# Altium schematic symbol library ICs_DCDC.SchLib: 31 symbols
Pins are listed as number, name and electrical type; pins without a type are passive.

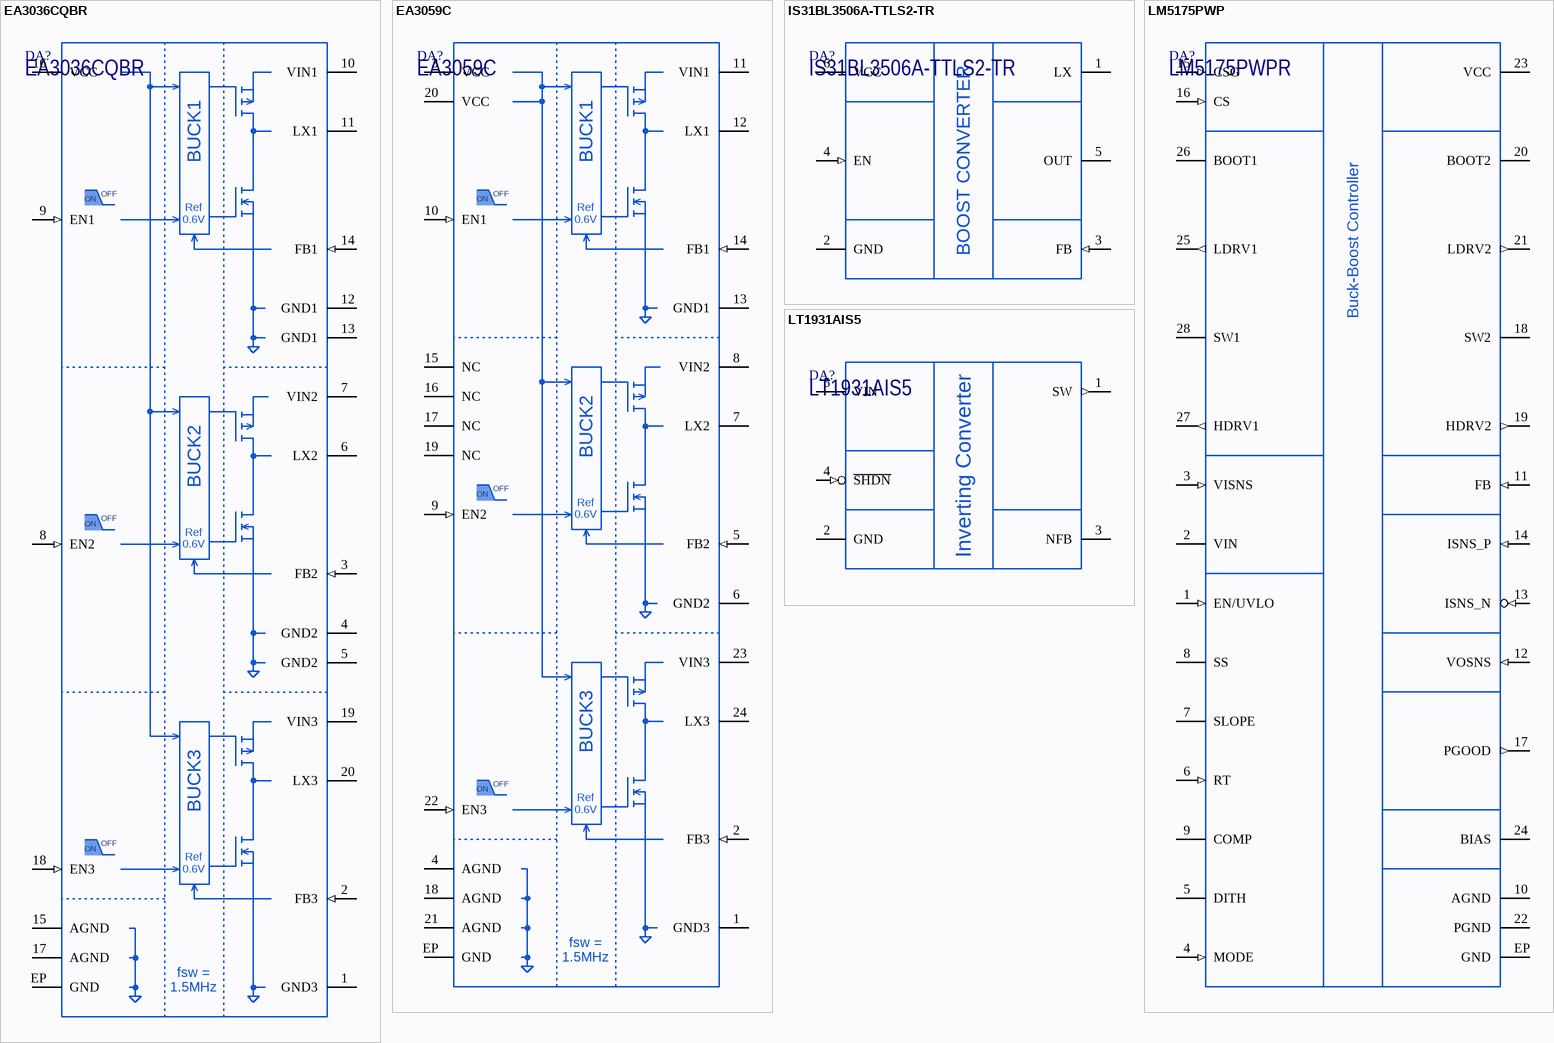
[diagram p0: symbols EA3036CQBR to LT1931AIS5]

## EA3036CQBR
designator DA?
3CH Power Management IC; Manufacturer: Everanalog; ItemSubType: Buck converter; Package: QFN-20 (3x3); PartNumber: EA3036CQBR; Marking: EA3036C; ItemType: IC; Mounting: SMD
footprint QFN20_EA3036C (Power QFN 3mm x 3mm, 0.4mm pitch)
pins: 1 GND3, 2 FB3 (in), 3 FB2 (in), 4 GND2, 5 GND2, 6 LX2, 7 VIN2 (power), 8 EN2 (in), 9 EN1 (in), 10 VIN1 (power), 11 LX1, 12 GND1, 13 GND1, 14 FB1 (in), 15 AGND, 16 VCC (power), 17 AGND, 18 EN3 (in), 19 VIN3 (power), 20 LX3, EP GND
text: BUCK1; OFF; ON; Ref; 0.6V; BUCK2; BUCK3; fsw =; 1.5MHz

## EA3059C
designator DA?
3CH Power Management IC; Manufacturer: Everanalog; ItemSubType: Buck converter; Package: QFN-24 (4x4); PartNumber: EA3059C; Marking: EA3059C; ItemType: IC; Mounting: SMD
footprint QFN24_EA3059C (Power QFN 4mm x 4mm, 0.5mm pitch)
pins: 1 GND3, 2 FB3 (in), 3 VCC (power), 4 AGND, 5 FB2 (in), 6 GND2, 7 LX2, 8 VIN2 (power), 9 EN2 (in), 10 EN1 (in), 11 VIN1 (power), 12 LX1, 13 GND1, 14 FB1 (in), 15 NC (hiz), 16 NC (hiz), 17 NC (hiz), 18 AGND, 19 NC (hiz), 20 VCC (power), 21 AGND, 22 EN3 (in), 23 VIN3 (power), 24 LX3, EP GND
text: BUCK1; OFF; ON; Ref; 0.6V; BUCK2; BUCK3; fsw =; 1.5MHz

## IS31BL3506A-TTLS2-TR
designator DA?
1.0MHz Boost Converter With 35V Internal MOSFET Switch; Manufacturer: ISSI; AltManufacturer1: Wuxi Chipown; Alternative1: AP3128AE3036ES6; Marking: 3506A; ItemType: IC; Package: TSOT-23-6; PartNumber: IS31BL3506A-TTLS2-TR; ItemSubType: Boost converter; Mounting: SMD
footprint TSOT236_JEDEC_MO193AA (TSOT23, 6-Leads, Body 1.60x2.90mm, Pitch 0.95mm)
pins: 1 LX, 2 GND, 3 FB (in), 4 EN (in), 5 OUT (power), 6 VCC (power)
text: BOOST CONVERTER

## LM5175PWP
designator DA?, comment LM5175PWPR
Synchronous 4-Switch Buck-Boost Controller; Manufacturer: Texas Instruments; Marking: LM5175; ItemType: IC; PartNumber: LM5175PWPR; Package: HTSSOP-28; ItemSubType: Buck-Boost Controller; Mounting: SMD
footprint HTSSOP28_PWP0028C (HTSSOP, 28-Leads, Pitch 0.65mm)
pins: 1 EN/UVLO (in), 2 VIN (power), 3 VISNS (in), 4 MODE (in), 5 DITH, 6 RT (in), 7 SLOPE, 8 SS, 9 COMP, 10 AGND, 11 FB (in), 12 VOSNS (in), 13 ISNS_N (in), 14 ISNS_P (in), 15 CSG (in), 16 CS (in), 17 PGOOD (out), 18 SW2, 19 HDRV2 (out), 20 BOOT2, 21 LDRV2 (out), 22 PGND, 23 VCC (power), 24 BIAS, 25 LDRV1 (out), 26 BOOT1, 27 HDRV1 (out), 28 SW1, EP GND

## LT1931AIS5
designator DA?
1.2MHz/2.2MHz Inverting DC/DC Converters; Manufacturer: Analog Devices; Marking: LTBZG; ItemType: IC; ItemSubType: Inverting converter; Package: TSOT-23-5; PartNumber: LT1931AIS5; Mounting: SMD
footprint TSOT235_JEDEC_MO193AB (TSOT23, 5-Leads, Body 1.60x2.90mm, Pitch 0.95mm)
pins: 1 SW (out), 2 GND, 3 NFB (power), 4 ~{SHDN} (in), 5 VIN (power)
text: Inverting Converter

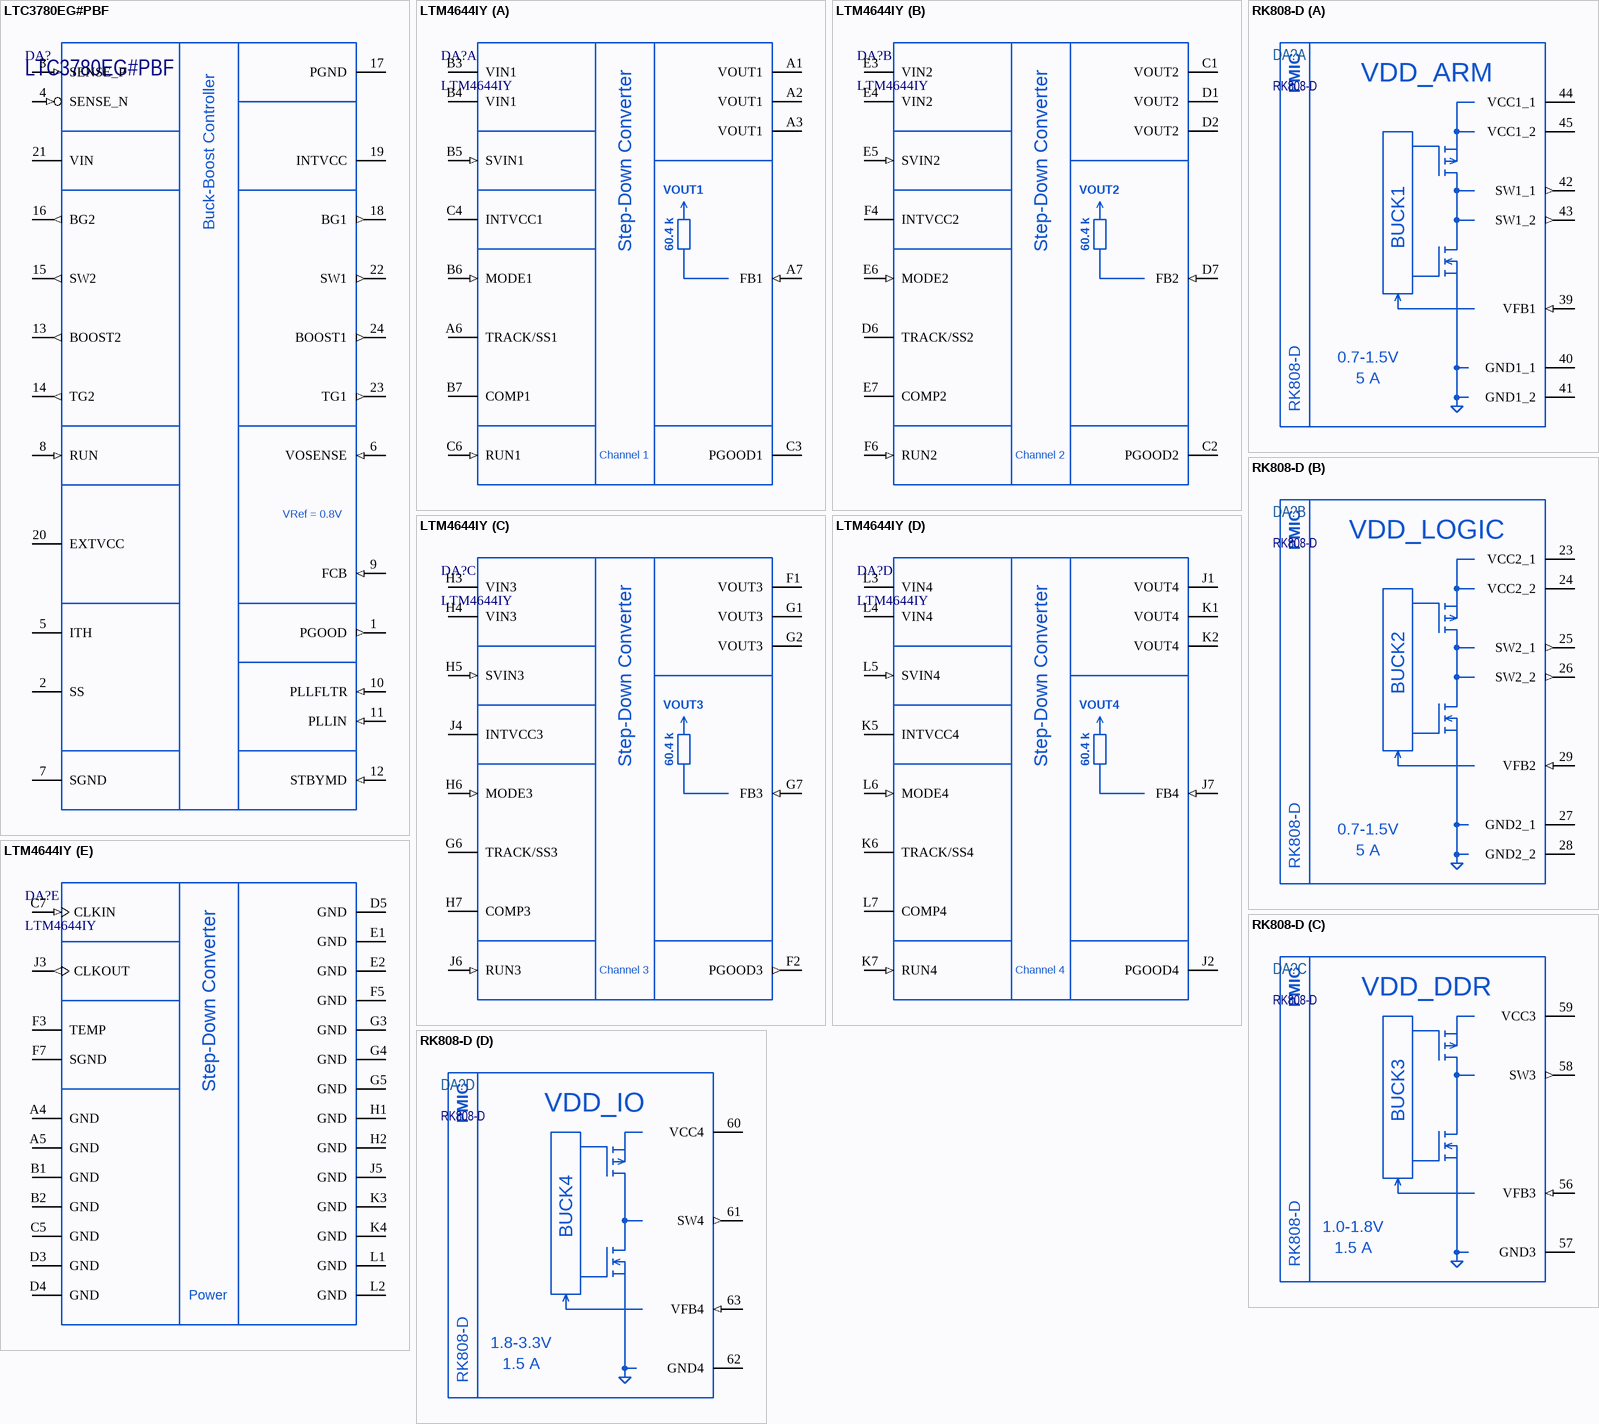
[diagram p1: symbols LTC3780EG#PBF to RK808-D]

## LTC3780EG#PBF
designator DA?
High Efficiency, Synchronous, 4-Switch Buck-Boost Controller; Manufacturer: Analog Devices; ItemType: IC; PartNumber: LTC3780EG#PBF; Package: SSOP-24; Marking: LTC3780EG; ItemSubType: Buck-Boost Controller; Mounting: SMD
footprint SSOP24_LTC3780 (24-Lead Plastic SSOP (5.3mm))
pins: 1 PGOOD (out), 2 SS, 3 SENSE_P (in), 4 SENSE_N (in), 5 ITH, 6 VOSENSE (in), 7 SGND, 8 RUN (in), 9 FCB (in), 10 PLLFLTR (in), 11 PLLIN (in), 12 STBYMD (in), 13 BOOST2 (out), 14 TG2 (out), 15 SW2 (out), 16 BG2 (out), 17 PGND, 18 BG1 (out), 19 INTVCC, 20 EXTVCC, 21 VIN, 22 SW1 (out), 23 TG1 (out), 24 BOOST1 (out)
text: VRef = 0.8V

## LTM4644IY
designator DA?
Quad DC/DC µModule Regulator with Configurable 4A Output Array; Manufacturer: Analog Devices; Marking: LTM4644Y; ItemType: IC; ItemSubType: Buck converter; PartNumber: LTM4644IY; Package: BGA-77; Mounting: SMD
footprint BGA77_LTM4644 (BGA, 77-Leads, Body 15,00x9,00mmx5,21mm, Pitch 1,27mm)
part A pins: A1 VOUT1 (power), A2 VOUT1 (power), A3 VOUT1 (power), A6 TRACK/SS1, A7 FB1 (in), B3 VIN1 (power), B4 VIN1 (power), B5 SVIN1 (in), B6 MODE1 (in), B7 COMP1, C3 PGOOD1 (oc), C4 INTVCC1 (power), C6 RUN1 (in)
part B pins: C1 VOUT2 (power), C2 PGOOD2 (oc), D1 VOUT2 (power), D2 VOUT2 (power), D6 TRACK/SS2, D7 FB2 (in), E3 VIN2 (power), E4 VIN2 (power), E5 SVIN2 (in), E6 MODE2 (in), E7 COMP2, F4 INTVCC2 (power), F6 RUN2 (in)
part C pins: F1 VOUT3 (power), F2 PGOOD3 (out), G1 VOUT3 (power), G2 VOUT3 (power), G6 TRACK/SS3, G7 FB3 (in), H3 VIN3 (power), H4 VIN3 (power), H5 SVIN3 (in), H6 MODE3 (in), H7 COMP3, J4 INTVCC3 (power), J6 RUN3 (in)
part D pins: J1 VOUT4 (power), J2 PGOOD4 (oc), J7 FB4 (in), K1 VOUT4 (power), K2 VOUT4 (power), K5 INTVCC4 (power), K6 TRACK/SS4, K7 RUN4 (in), L3 VIN4 (power), L4 VIN4 (power), L5 SVIN4 (in), L6 MODE4 (in), L7 COMP4
part E pins: A4 GND, A5 GND, B1 GND, B2 GND, C5 GND, C7 CLKIN (in), D3 GND, D4 GND, D5 GND, E1 GND, E2 GND, F3 TEMP, F5 GND, F7 SGND, G3 GND, G4 GND, G5 GND, H1 GND, H2 GND, J3 CLKOUT (out), J5 GND, K3 GND, K4 GND, L1 GND, L2 GND
part A text: Step-Down Converter; 60.4 k; Channel 1
part B text: Step-Down Converter; 60.4 k; Channel 2
part C text: Step-Down Converter; 60.4 k; Channel 3
part D text: Step-Down Converter; 60.4 k; Channel 4
part E text: Step-Down Converter; Power

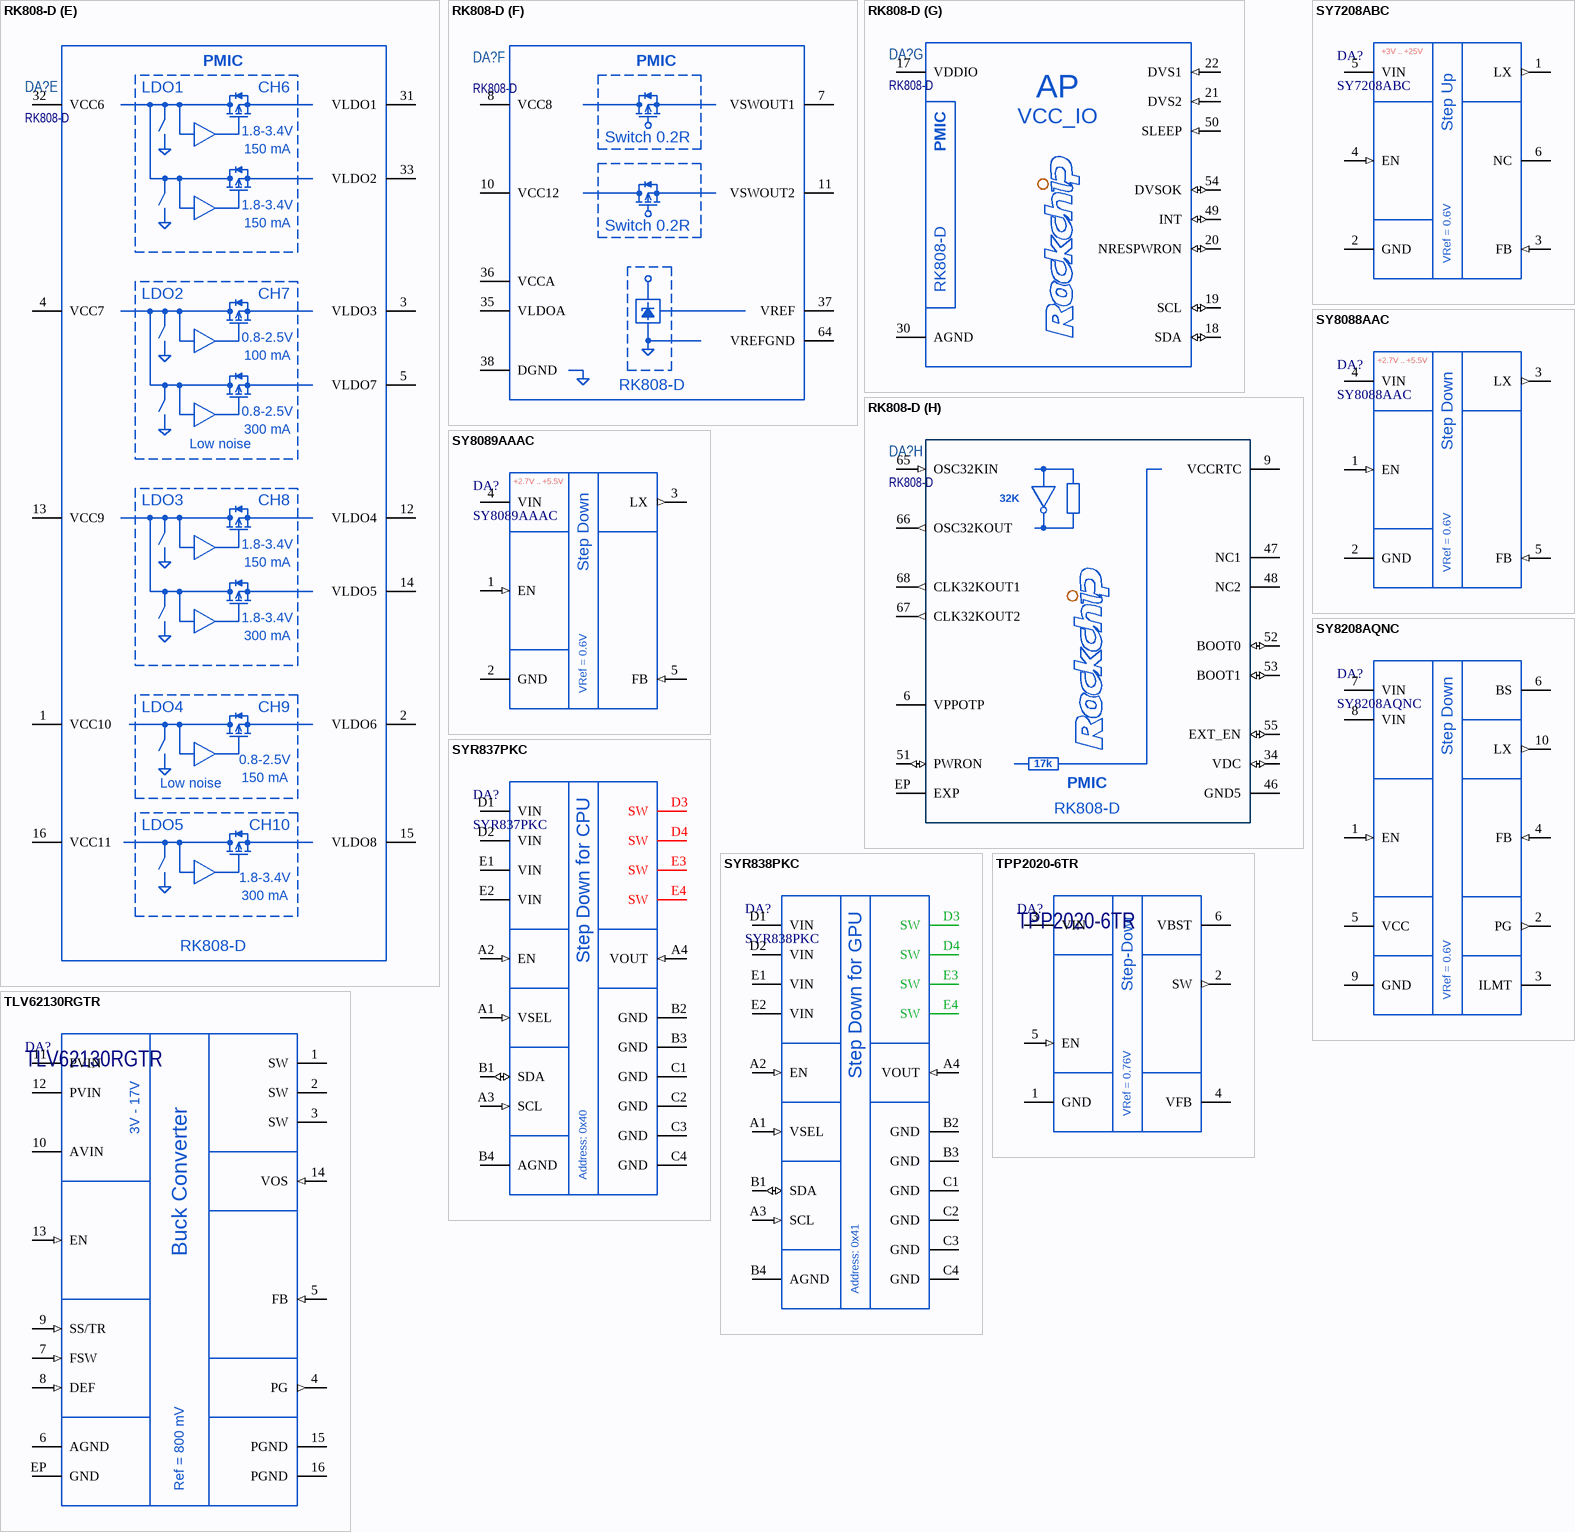
[diagram p2: symbols RK808-D to TPP2020-6TR]

## RK808-D
designator DA?
PMIC; Manufacturer: Rockchip; ItemType: IC; PartNumber: RK808-D; Package: QFN-68 (p = 0.35mm); ItemSubType: PMIC; Mounting: SMD
footprint QFN68_RK8xx (Power QFN 7mm x 7mm, 0.35mm pitch, for RockChip PMIC RK8xx)
part A pins: 39 VFB1 (in), 40 GND1_1, 41 GND1_2, 42 SW1_1 (out), 43 SW1_2 (out), 44 VCC1_1 (power), 45 VCC1_2 (power)
part B pins: 23 VCC2_1 (power), 24 VCC2_2 (power), 25 SW2_1 (out), 26 SW2_2 (out), 27 GND2_1, 28 GND2_2, 29 VFB2 (in)
part C pins: 56 VFB3 (in), 57 GND3, 58 SW3 (out), 59 VCC3 (power)
part D pins: 60 VCC4 (power), 61 SW4 (out), 62 GND4, 63 VFB4 (in)
part E pins: 1 VCC10 (power), 2 VLDO6 (power), 3 VLDO3 (power), 4 VCC7 (power), 5 VLDO7 (power), 12 VLDO4 (power), 13 VCC9 (power), 14 VLDO5 (power), 15 VLDO8 (power), 16 VCC11 (power), 31 VLDO1 (power), 32 VCC6 (power), 33 VLDO2 (power)
part F pins: 7 VSWOUT1 (power), 8 VCC8 (power), 10 VCC12 (power), 11 VSWOUT2 (power), 35 VLDOA (power), 36 VCCA (power), 37 VREF (power), 38 DGND, 64 VREFGND
part G pins: 17 VDDIO (power), 18 SDA (io), 19 SCL (io), 20 NRESPWRON (io), 21 DVS2 (in), 22 DVS1 (in), 30 AGND, 49 INT (io), 50 SLEEP (in), 54 DVSOK (io)
part H pins: 6 VPPOTP (power), 9 VCCRTC (power), 34 VDC (io), 46 GND5, 47 NC1 (hiz), 48 NC2 (hiz), 51 PWRON (io), 52 BOOT0 (io), 53 BOOT1 (io), 55 EXT_EN (io), 65 OSC32KIN (in), 66 OSC32KOUT (out), 67 CLK32KOUT2 (out), 68 CLK32KOUT1 (out), EP EXP
part A text: VDD_ARM; BUCK1; 5 A; 0.7-1.5V
part B text: VDD_LOGIC; BUCK2; 5 A; 0.7-1.5V
part C text: VDD_DDR; BUCK3; 1.5 A; 1.0-1.8V
part D text: VDD_IO; BUCK4; 1.5 A; 1.8-3.3V
part E text: LDO1; CH6; 150 mA; 1.8-3.4V; LDO2; CH7; 100 mA; 0.8-2.5V; 300 mA; Low noise; LDO3; CH8; LDO4; CH9; LDO5; CH10
part F text: Switch 0.2R
part G text: AP; VCC_IO
part H text: 32K; 17k

## SY7208ABC
designator DA?
High Efficiency 1MHz, 2A Step Up Regulator; Manufacturer: Silergy; Marking: CAxxx; ItemSubType: Boost converter; ItemType: IC; PartNumber: SY7208ABC; Package: SOT23-6; Mounting: SMD
footprint SOT236_JEDEC_MO178AB (SOT23, 6-Leads, Body 1.60x2.90mm, Pitch 0.95mm)
pins: 1 LX (out), 2 GND, 3 FB (in), 4 EN (in), 5 VIN (power), 6 NC (hiz)
text: +3V .. +25V; Step Up; VRef = 0.6V

## SY8088AAC
designator DA?
High Efficiency 5.5V, 1A, 1.5 MHz Synchronous Step Down Regulator; Manufacturer: Silergy; Marking: LDxxx; ItemSubType: Buck converter; ItemType: IC; PartNumber: SY8088AAC; Package: SOT23-5; Mounting: SMD
footprint SOT235_JEDEC_MO178AA (SOT23, 5-Leads, Body 1.60x2.90mm, Pitch 0.95mm)
pins: 1 EN (in), 2 GND, 3 LX (out), 4 VIN (power), 5 FB (in)
text: +2.7V .. +5.5V; Step Down; VRef = 0.6V

## SY8089AAAC
designator DA?
High Efficiency 5.5V, 2A continuous, 3A peak, 1MHz Synchronous Step Down Regulator; Manufacturer: Silergy; Marking: KVxxx; ItemSubType: Buck converter; ItemType: IC; PartNumber: SY8089AAAC; Package: SOT23-5; Mounting: SMD
footprint SOT235_JEDEC_MO178AA (SOT23, 5-Leads, Body 1.60x2.90mm, Pitch 0.95mm)
pins: 1 EN (in), 2 GND, 3 LX (out), 4 VIN (power), 5 FB (in)
text: +2.7V .. +5.5V; Step Down; VRef = 0.6V

## SY8208AQNC
designator DA?
High Efficiency Fast Response 8A Continuous, 16A Peak, 28V Input Synchronous Step Down Regulator; Manufacturer: Silergy; Marking: MRxxx; ItemType: IC; ItemSubType: Buck converter; PartNumber: SY8208AQNC; Package: QFN3x3-10 FC; Mounting: SMD
footprint QFN3x3_10FC (Power QFN 3mm x 3mm)
pins: 1 EN (in), 2 PG (out), 3 ILMT, 4 FB (in), 5 VCC (power), 6 BS, 7 VIN (power), 8 VIN (power), 9 GND, 10 LX (out)
text: Step Down; VRef = 0.6V

## SYR837PKC
designator DA?
High Efficiency 5.5V, 6A, 2.4MHz, I2C Programmable, Synchronous Step Down Regulator; Manufacturer: Silergy; Marking: Jn xxx; ItemType: IC; ItemSubType: PMIC; PartNumber: SYR837PKC; Package: CSP-20; Mounting: SMD
footprint CSP20_Jn (20-ball package, 1.56x1.96mm)
pins: A1 VSEL (in), A2 EN (in), A3 SCL (in), A4 VOUT (in), B1 SDA (io), B2 GND, B3 GND, B4 AGND, C1 GND, C2 GND, C3 GND, C4 GND, D1 VIN (power), D2 VIN (power), D3 SW (power), D4 SW (power), E1 VIN (power), E2 VIN (power), E3 SW (power), E4 SW (power)
text: Step Down for CPU; Address: 0x40

## SYR838PKC
designator DA?
High Efficiency 5.5V, 6A, 2.4MHz, I2C Programmable, Synchronous Step Down Regulator; Manufacturer: Silergy; Marking: Jq xxx; ItemType: IC; ItemSubType: PMIC; PartNumber: SYR838PKC; Package: CSP-20; Mounting: SMD
footprint CSP20_Jq (20-ball package, 1.56x1.96mm)
pins: A1 VSEL (in), A2 EN (in), A3 SCL (in), A4 VOUT (in), B1 SDA (io), B2 GND, B3 GND, B4 AGND, C1 GND, C2 GND, C3 GND, C4 GND, D1 VIN (power), D2 VIN (power), D3 SW (power), D4 SW (power), E1 VIN (power), E2 VIN (power), E3 SW (power), E4 SW (power)
text: Step Down for GPU; Address: 0x41

## TLV62130RGTR
designator DA?
3-V to 17-V 3-A Step-Down Converter; Manufacturer: Texas Instruments; ItemType: IC; ItemSubType: Buck converter; Marking: VUBI; Alternative1: TLV62130RGTT; PartNumber: TLV62130RGTR; Package: VQFN-16; AltManufacturer1: Texas Instruments; Mounting: SMD
footprint VQFN16_RGT0016C (Power VQFN 3mm x 3mm, TI case RGT0016C)
pins: 1 SW, 2 SW, 3 SW, 4 PG (out), 5 FB (in), 6 AGND, 7 FSW (in), 8 DEF (in), 9 SS/TR (in), 10 AVIN (power), 11 PVIN (power), 12 PVIN (power), 13 EN (in), 14 VOS (in), 15 PGND, 16 PGND, EP GND
text: 3V - 17V; Buck Converter; Ref = 800 mV

## TPP2020-6TR
designator DA?
17-V Input, 2-A Synchronous Step-Down Voltage Regulator; Manufacturer: 3PEAK; Marking: 202; ItemType: IC; ItemSubType: Buck converter; PartNumber: TPP2020-6TR; Package: TSOT23-6; Mounting: SMD
footprint TSOT236_JEDEC_MO193AA (TSOT23, 6-Leads, Body 1.60x2.90mm, Pitch 0.95mm)
pins: 1 GND, 2 SW (out), 3 VIN (power), 4 VFB, 5 EN (in), 6 VBST
text: Step-Down; VRef = 0.76V

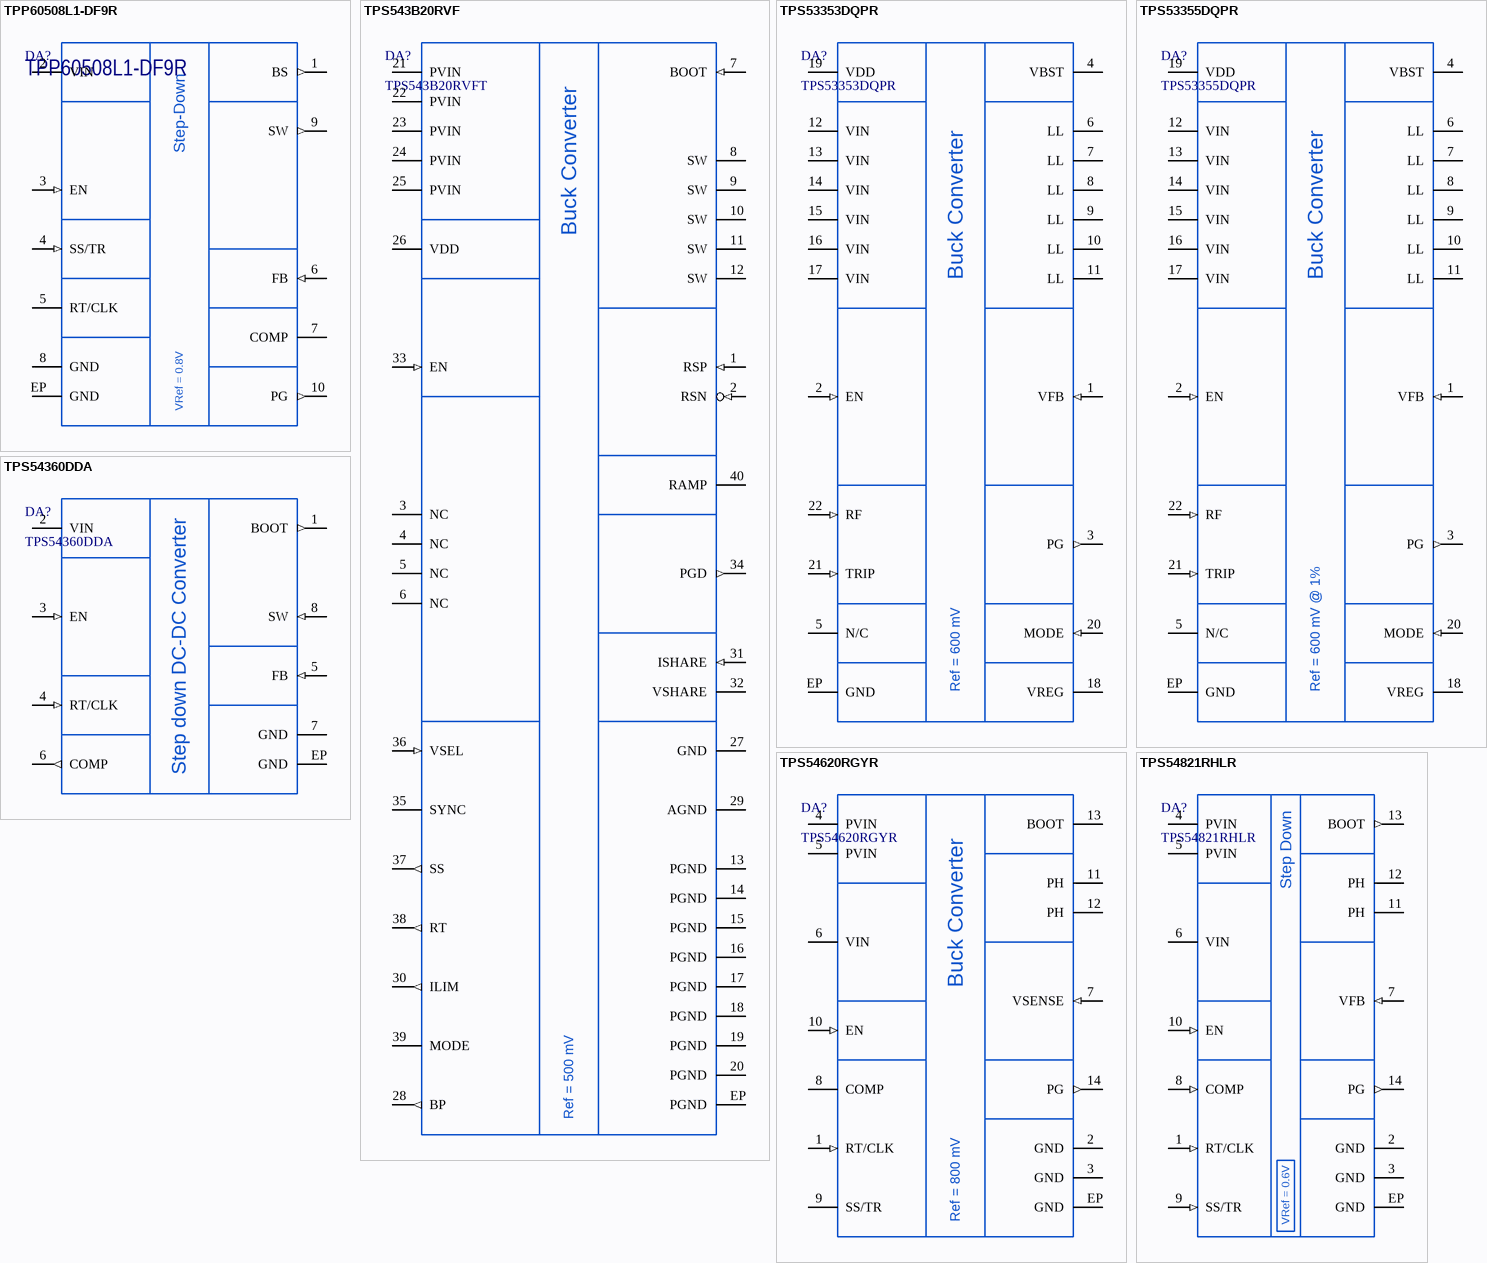
[diagram p3: symbols TPP60508L1-DF9R to TPS54821RHLR]

## TPP60508L1-DF9R
designator DA?
60-V, 5-A, Non-Synchronous Step-Down DC/DC Converter; Manufacturer: 3PEAK; Marking: P658; ItemType: IC; ItemSubType: Buck converter; Alternative1: TPP60508L1-DF9R-S; PartNumber: TPP60508L1-DF9R; Package: DF9(DFN10_4x4); AltManufacturer1: 3PEAK; Mounting: SMD
footprint DF9(DFN10_4x4) (Power DFN 4.1mm x 4.1mm, 0.8mm pitch)
pins: 1 BS (out), 2 VIN (power), 3 EN (in), 4 SS/TR (in), 5 RT/CLK, 6 FB (in), 7 COMP, 8 GND, 9 SW (out), 10 PG (out), EP GND
text: Step-Down; VRef = 0.8V

## TPS543B20RVF
designator DA?, comment TPS543B20RVFT
4-VIN to 19-VIN, 25-A Stackable, Synchronous Step-Down SWIFT Converter; Manufacturer: Texas Instruments; ItemType: IC; ItemSubType: Buck converter; Alternative1: TPS543B20RVFR; PartNumber: TPS543B20RVFT; Package: LQFN-CLIP-40; Marking: TPS543B20; AltManufacturer1: Texas Instruments; Mounting: SMD
footprint LQFN40_RVF0040A (LQFN-CLIP 5mm x 7mm, TI case RVF0040A)
pins: 1 RSP (in), 2 RSN (in), 3 NC (hiz), 4 NC (hiz), 5 NC (hiz), 6 NC (hiz), 7 BOOT (in), 8 SW, 9 SW, 10 SW, 11 SW, 12 SW, 13 PGND, 14 PGND, 15 PGND, 16 PGND, 17 PGND, 18 PGND, 19 PGND, 20 PGND, 21 PVIN (power), 22 PVIN (power), 23 PVIN (power), 24 PVIN (power), 25 PVIN (power), 26 VDD (power), 27 GND, 28 BP (out), 29 AGND, 30 ILIM (out), 31 ISHARE (in), 32 VSHARE, 33 EN (in), 34 PGD (out), 35 SYNC, 36 VSEL (in), 37 SS (out), 38 RT (out), 39 MODE, 40 RAMP, EP PGND
text: Buck Converter; Ref = 500 mV

## TPS53353DQPR
designator DA?
High-Efficiency 20-A Synchronous Buck Converter; Manufacturer: Texas Instruments; ItemType: IC; Alternative1: TPS53353DQPT; PartNumber: TPS53353DQPR; Package: LSON-CLIP-22; Marking: 53353DQP; ItemSubType: Buck converter; AltManufacturer1: Texas Instruments; Mounting: SMD
footprint LSON-CLIP22 (DFN, 22-Leads, Body 6x5mm, Pitch 0.50mm, Thermal Pad 3.24x5.49mm. TI Reference R-PSON-N22)
pins: 1 VFB (in), 2 EN (in), 3 PG (out), 4 VBST, 5 N/C (hiz), 6 LL, 7 LL, 8 LL, 9 LL, 10 LL, 11 LL, 12 VIN (power), 13 VIN (power), 14 VIN (power), 15 VIN (power), 16 VIN (power), 17 VIN (power), 18 VREG (power), 19 VDD (power), 20 MODE (in), 21 TRIP (in), 22 RF (in), EP GND
text: Buck Converter; Ref = 600 mV

## TPS53355DQPR
designator DA?
1.5-V to 15-V Input (4.5-V to 25-V bias) 30-A Synch Step-down SWIFT Converter with Eco-mode; Manufacturer: Texas Instruments; ItemType: IC; ItemSubType: Buck converter; Alternative1: TPS53355DQPT; PartNumber: TPS53355DQPR; Package: LSON-CLIP-22; Marking: 53355DQP; AltManufacturer1: Texas Instruments; Mounting: SMD
footprint LSON-CLIP22 (DFN, 22-Leads, Body 6x5mm, Pitch 0.50mm, Thermal Pad 3.24x5.49mm. TI Reference R-PSON-N22)
pins: 1 VFB (in), 2 EN (in), 3 PG (out), 4 VBST, 5 N/C (hiz), 6 LL, 7 LL, 8 LL, 9 LL, 10 LL, 11 LL, 12 VIN (power), 13 VIN (power), 14 VIN (power), 15 VIN (power), 16 VIN (power), 17 VIN (power), 18 VREG (power), 19 VDD (power), 20 MODE (in), 21 TRIP (in), 22 RF (in), EP GND
text: Buck Converter; Ref = 600 mV @ 1%

## TPS54360DDA
designator DA?
60-V Input, 3.5-A, Step-Down DC/DC Converter With Eco-Mode; Manufacturer: Texas Instruments; Marking: 54360; ItemType: IC; ItemSubType: Buck converter; PartNumber: TPS54360DDA; Package: Power SOIC-8; Mounting: SMD
footprint SOIC8EP_R-PDSO-G8 (Power SOIC-8 package with exponsed pad)
pins: 1 BOOT (out), 2 VIN (power), 3 EN (in), 4 RT/CLK (in), 5 FB (in), 6 COMP (out), 7 GND, 8 SW (in), EP GND
text: Step down DC-DC Converter

## TPS54620RGYR
designator DA?
4.5-V to 17-V Input, 6-A, Synchronous, Step-Down Converter; Manufacturer: Texas Instruments; Marking: 54620; ItemType: IC; ItemSubType: Buck converter; Alternative1: TPS54620RGYT; PartNumber: TPS54620RGYR; Package: VQFN-14; AltManufacturer1: Texas Instruments; Mounting: SMD
footprint VQFN14_RHL0014A (VQFN-14 package 3.5x3.5mm with 0.5mm pitch)
pins: 1 RT/CLK (in), 2 GND, 3 GND, 4 PVIN (power), 5 PVIN (power), 6 VIN (power), 7 VSENSE (in), 8 COMP, 9 SS/TR, 10 EN (in), 11 PH, 12 PH, 13 BOOT, 14 PG (out), EP GND
text: Buck Converter; Ref = 800 mV

## TPS54821RHLR
designator DA?
4.5 V to 17 V Input, 8 A Synchronous Step Down Converter With Hiccup; Manufacturer: Texas Instruments; Marking: 54821; ItemType: IC; ItemSubType: Buck converter; Alternative1: TPS54821RHLT; PartNumber: TPS54821RHLR; Package: VQFN-14; AltManufacturer1: Texas Instruments; Mounting: SMD
footprint VQFN14_RHL0014A (VQFN-14 package 3.5x3.5mm with 0.5mm pitch)
pins: 1 RT/CLK (in), 2 GND, 3 GND, 4 PVIN (power), 5 PVIN (power), 6 VIN (power), 7 VFB (in), 8 COMP (in), 9 SS/TR (in), 10 EN (in), 11 PH (power), 12 PH (power), 13 BOOT (out), 14 PG (out), EP GND
text: Step Down; VRef = 0.6V

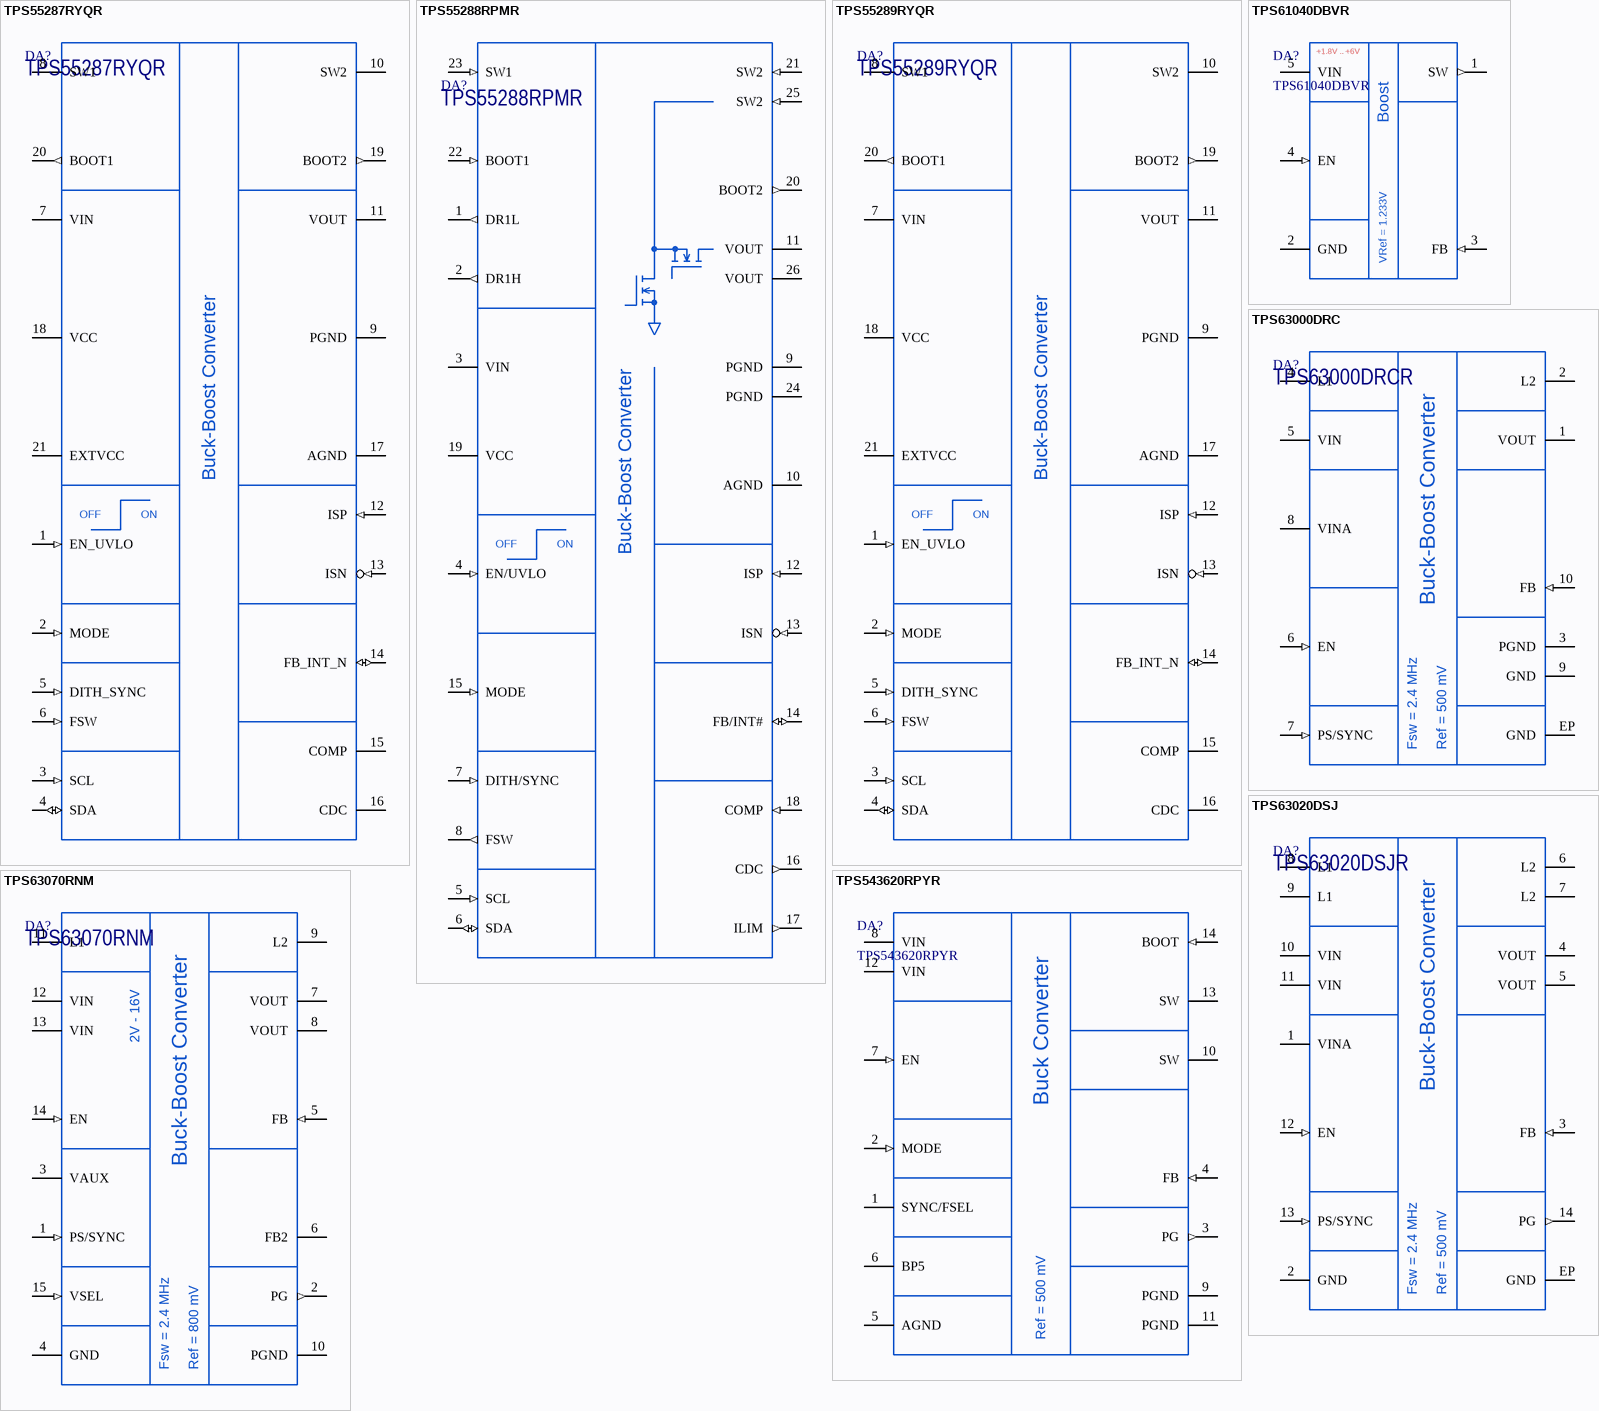
[diagram p4: symbols TPS55287RYQR to TPS543620RPYR]

## TPS55287RYQR
designator DA?
36-V, 4-A Buck-boost Converter with I2C Interface; Manufacturer: Texas Instruments; Marking: 55287; ItemType: IC; ItemSubType: Buck-Boost Controller; PartNumber: TPS55287RYQR; Package: VQFN-HR-21; Mounting: SMD
footprint VQFNHR21_RYQ0021A (Power VQFN 3mm x 5mm, TI case RYQ0021A)
pins: 1 EN_UVLO (in), 2 MODE (in), 3 SCL (in), 4 SDA (io), 5 DITH_SYNC (in), 6 FSW (in), 7 VIN (power), 8 SW1 (power), 9 PGND, 10 SW2 (power), 11 VOUT (power), 12 ISP (in), 13 ISN (in), 14 FB_INT_N (io), 15 COMP, 16 CDC, 17 AGND, 18 VCC, 19 BOOT2 (out), 20 BOOT1 (out), 21 EXTVCC
text: Buck-Boost Converter; OFF; ON

## TPS55288RPMR
designator DA?
36-V, 16-A Buck-boost Converter with I2C Interface; Manufacturer: Texas Instruments; Marking: 55288; ItemType: IC; ItemSubType: Buck-Boost Controller; PartNumber: TPS55288RPMR; Package: VQFN-HR-26; Mounting: SMD
footprint VQFNHR26_RPM0026A (Power VQFN 3.5mm x 4mm, TI case RPM0026A)
pins: 1 DR1L (out), 2 DR1H (out), 3 VIN (power), 4 EN/UVLO (in), 5 SCL (in), 6 SDA (io), 7 DITH/SYNC (in), 8 FSW (out), 9 PGND, 10 AGND, 11 VOUT (power), 12 ISP (in), 13 ISN (in), 14 FB/INT# (io), 15 MODE (in), 16 CDC (out), 17 ILIM (out), 18 COMP (in), 19 VCC (power), 20 BOOT2 (out), 21 SW2 (in), 22 BOOT1 (in), 23 SW1 (in), 24 PGND, 25 SW2 (in), 26 VOUT (power)
text: Buck-Boost Converter; OFF; ON

## TPS55289RYQR
designator DA?
30-V, 8-A Buck-Boost Converter with I2C Interface; Manufacturer: Texas Instruments; Marking: S55289; ItemType: IC; ItemSubType: Buck-Boost Controller; PartNumber: TPS55289RYQR; Package: VQFN-HR-21; Mounting: SMD
footprint VQFNHR21_RYQ0021A (Power VQFN 3mm x 5mm, TI case RYQ0021A)
pins: 1 EN_UVLO (in), 2 MODE (in), 3 SCL (in), 4 SDA (io), 5 DITH_SYNC (in), 6 FSW (in), 7 VIN (power), 8 SW1 (power), 9 PGND, 10 SW2 (power), 11 VOUT (power), 12 ISP (in), 13 ISN (in), 14 FB_INT_N (io), 15 COMP, 16 CDC, 17 AGND, 18 VCC, 19 BOOT2 (out), 20 BOOT1 (out), 21 EXTVCC
text: Buck-Boost Converter; OFF; ON

## TPS61040DBVR
designator DA?
Low Power DC/DC Boost Converter; Manufacturer: Texas Instruments; Marking: PHOI; ItemType: IC; PartNumber: TPS61040DBVR; Package: SOT23-5; ItemSubType: Boost converter; Mounting: SMD
footprint SOT235_JEDEC_MO178AA (SOT23, 5-Leads, Body 1.60x2.90mm, Pitch 0.95mm)
pins: 1 SW (out), 2 GND, 3 FB (in), 4 EN (in), 5 VIN (power)
text: +1.8V .. +6V; Boost; VRef = 1.233V

## TPS63000DRC
designator DA?, comment TPS63000DRCR
Vin = 1.8 .. 5.5V. High Efficiency Single Inductor Buck-boost Converter; Manufacturer: Texas Instruments; ItemType: IC; Marking: BPT; Alternative1: TPS63000DRCT; PartNumber: TPS63000DRCR; Package: VSON-10; ItemSubType: Buck-Boost converter; AltManufacturer1: Texas Instruments; Mounting: SMD
footprint VSON10_DRC0010J (VSON10, 3mm x 3mm TI Reference DRC0010J)
pins: 1 VOUT (power), 2 L2, 3 PGND, 4 L1, 5 VIN (power), 6 EN (in), 7 PS/SYNC (in), 8 VINA (power), 9 GND, 10 FB (in), EP GND
text: Buck-Boost Converter; Fsw = 2.4 MHz; Ref = 500 mV

## TPS63020DSJ
designator DA?, comment TPS63020DSJR
High Efficiency Single Inductor Buck-boost Converter; Manufacturer: Texas Instruments; ItemType: IC; Alternative1: TPS63020DSJT; PartNumber: TPS63020DSJR; Package: VSON-14; ItemSubType: Buck-Boost converter; Marking: PS63020; AltManufacturer1: Texas Instruments; Mounting: SMD
footprint VSON14_TPS63020 (VSON, 14-Leads, Body 3.00x4.00mm, Exposed Pad 1.58x2.85mm, Pitch 0.5mm. TI case style R-PVSON-N14)
pins: 1 VINA (power), 2 GND, 3 FB (in), 4 VOUT (power), 5 VOUT (power), 6 L2, 7 L2, 8 L1, 9 L1, 10 VIN (power), 11 VIN (power), 12 EN (in), 13 PS/SYNC (in), 14 PG (out), EP GND
text: Buck-Boost Converter; Fsw = 2.4 MHz; Ref = 500 mV

## TPS63070RNM
designator DA?
High Input Voltage, 2A Buck-Boost Converter; Manufacturer: Texas Instruments; ItemType: IC; Marking: 3070; PartNumber: TPS63070RNM; Package: VQFN-15; ItemSubType: Buck-Boost converter; Mounting: SMD
footprint VQFN15_TPS63070 (Power VQFN 3mm x 2.5mm)
pins: 1 PS/SYNC (in), 2 PG (out), 3 VAUX, 4 GND, 5 FB (in), 6 FB2, 7 VOUT (power), 8 VOUT (power), 9 L2, 10 PGND, 11 L1, 12 VIN (power), 13 VIN (power), 14 EN (in), 15 VSEL (in)
text: 2V - 16V; Buck-Boost Converter; Fsw = 2.4 MHz; Ref = 800 mV

## TPS543620RPYR
designator DA?
4-V to 18-V Input, 6-A Synchronous SWIFT™ Step-Down Converter; Manufacturer: Texas Instruments; Marking: 543620; ItemType: IC; ItemSubType: Buck converter; PartNumber: TPS543620RPYR; Package: VQFN-HR-15; Mounting: SMD
footprint VQFNHR14_RPY0014A (Power VQFN 3mm x 2.5mm, TI case RPY0014A)
pins: 1 SYNC/FSEL, 2 MODE (in), 3 PG (out), 4 FB (in), 5 AGND, 6 BP5, 7 EN (in), 8 VIN (power), 9 PGND, 10 SW, 11 PGND, 12 VIN (power), 13 SW, 14 BOOT (in)
text: Buck Converter; Ref = 500 mV